# Altium footprint library MODULE_RASPBERRY_PI_3_MODEL_B+.PcbLib: 1 footprints
Each footprint in its own frame and in the unit in brackets; x right, y up, seen from the top. Pads: shape width x height; smd on the part's side, far side on the other; paste and mask are expansions set on the pad; w line width, h text height; cw(c..) or ccw(c..) is an arc to the next point about the centre after c.
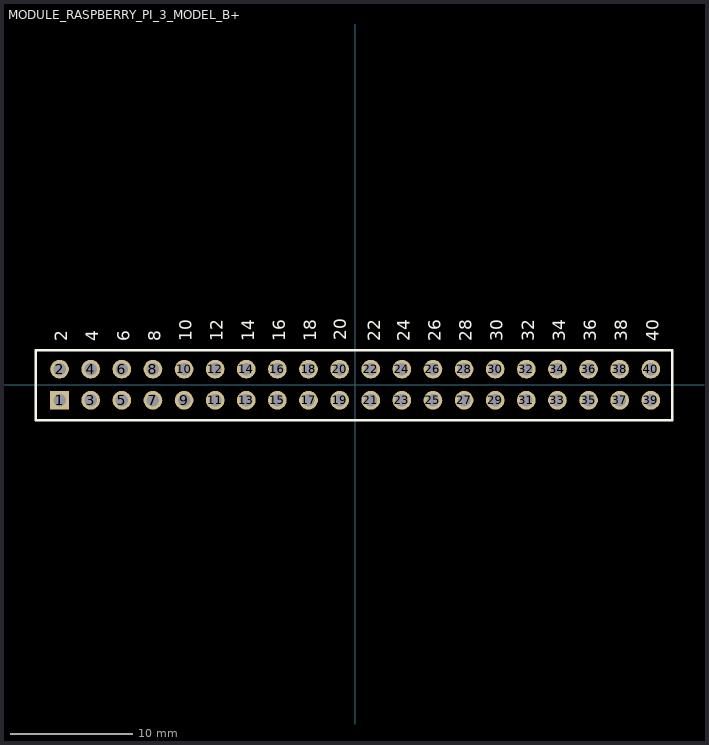
[diagram p0: the footprint, top view; thin cyan lines are the x and y axes]

## MODULE_RASPBERRY_PI_3_MODEL_B+ [mil]
height 629.92
pads (40):
  rect 60x60 / inner round 60 / far side rect 60x60 hole 40: 1(-950,-50)
  round 60 hole 40: 2(-950,50) 3(-850,-50) 4(-850,50) 5(-750,-50) 6(-750,50) 7(-650,-50) 8(-650,50) 9(-550,-50) 10(-550,50) 11(-450,-50) 12(-450,50) 13(-350,-50) 14(-350,50) 15(-250,-50) 16(-250,50) 17(-150,-50) 18(-150,50) 19(-50,-50) 20(-50,50) 21(50,-50) 22(50,50) 23(150,-50) 24(150,50) 25(250,-50) 26(250,50) 27(350,-50) 28(350,50) 29(450,-50) 30(450,50) 31(550,-50) 32(550,50) 33(650,-50) 34(650,50) 35(750,-50) 36(750,50) 37(850,-50) 38(850,50) 39(950,-50) 40(950,50)
Top Overlay:
  lines w7.87: -1026.3,-114.57 -1026.3,110.43 1018.7,110.43 1018.7,-99.57 1018.7,-114.57 -1026.3,-114.57
  text "2" at -925,140 h40
  text "4" at -825,140 h40
  text "6" at -725,140 h40
  text "8" at -625,140 h40
  text "10" at -525,140 h40
  text "12" at -425,140 h40
  text "14" at -325,140 h40
  text "16" at -225,140 h40
  text "18" at -125,140 h40
  text "20" at -28.36,143.28 h40
  text "24" at 175,140 h40
  text "26" at 275,140 h40
  text "22" at 80,140 h40
  text "28" at 375,140 h40
  text "30" at 475,140 h40
  text "32" at 575,140 h40
  text "34" at 675,140 h40
  text "36" at 775,140 h40
  text "38" at 875,140 h40
  text "40" at 975,140 h40